# Altium footprint library PcbLib.PcbLib: 44 footprints (part 1 of 3)
Each footprint in its own frame and in the unit in brackets; x right, y up, seen from the top. Pads: shape width x height; smd on the part's side, far side on the other; paste and mask are expansions set on the pad; w line width, h text height; cw(c..) or ccw(c..) is an arc to the next point about the centre after c.
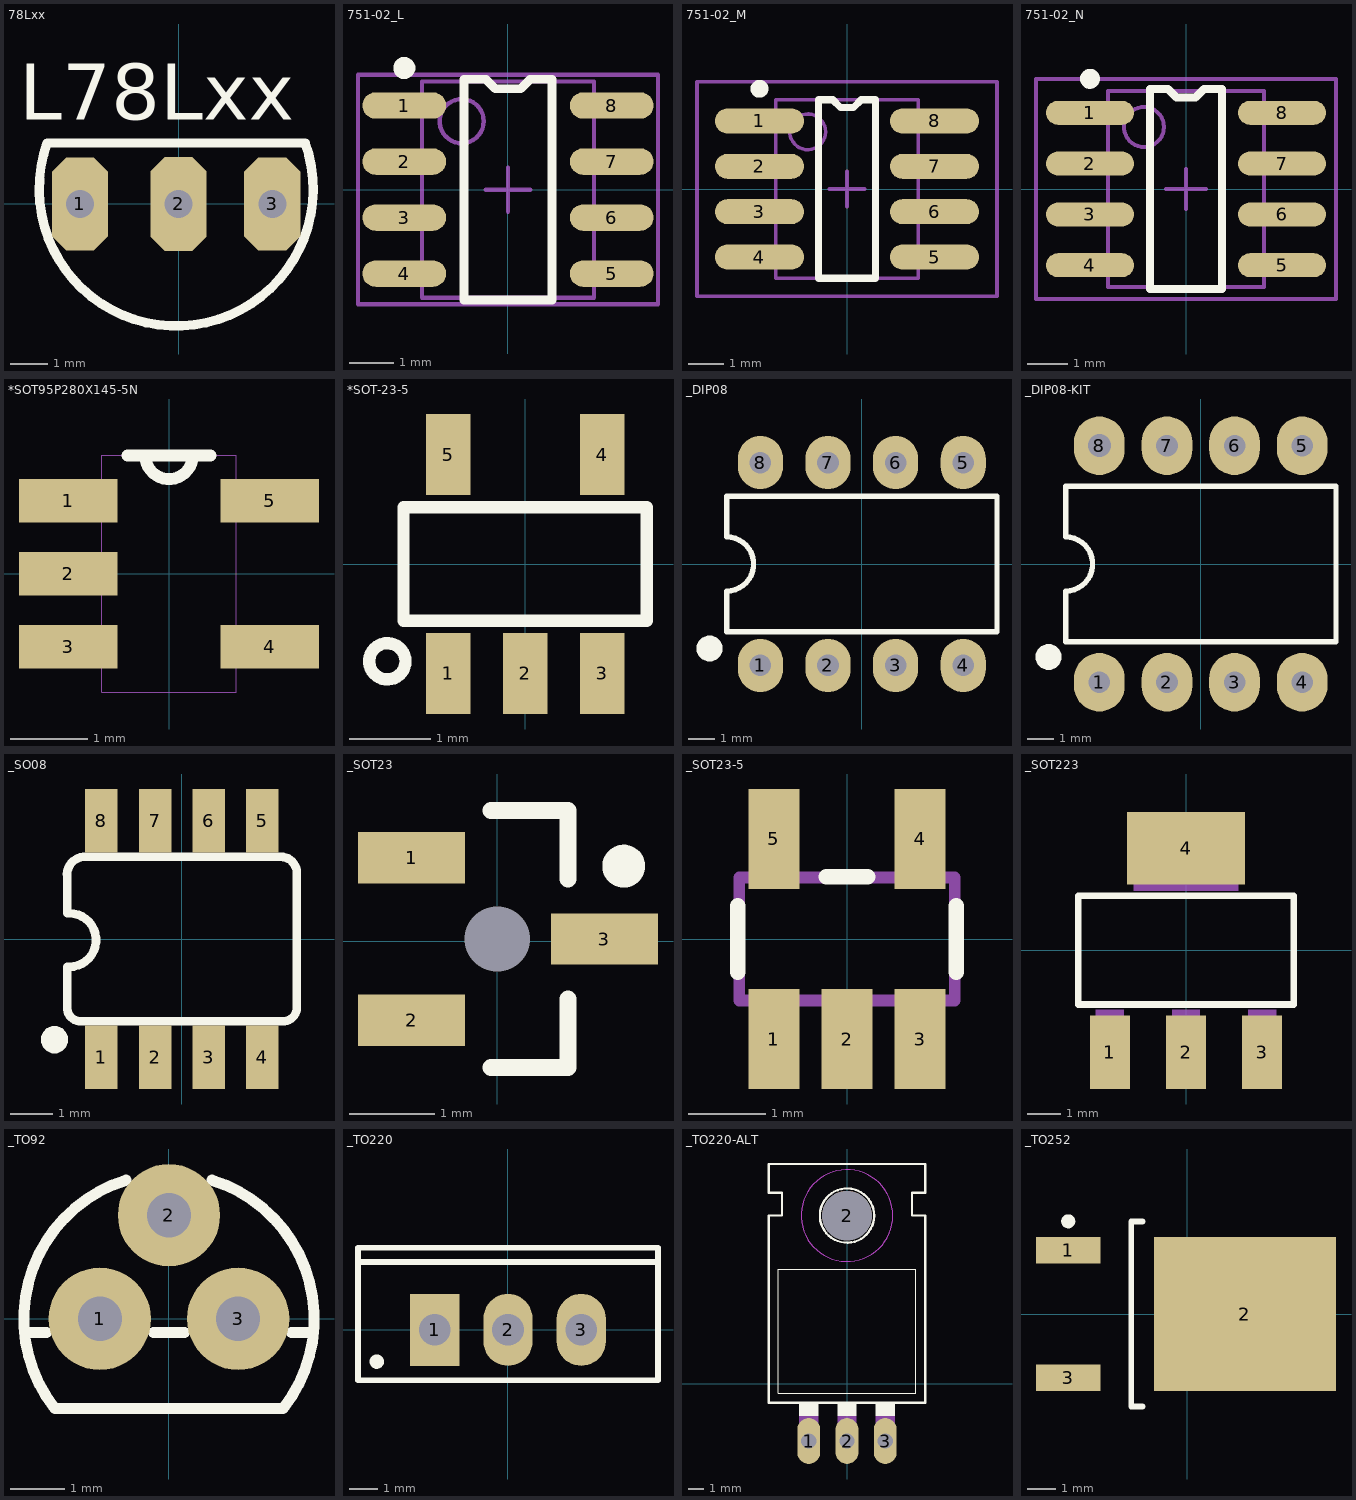
[diagram p0: the footprints below, top view; thin cyan lines are the x and y axes]

## 78Lxx [mil]
pads (3):
  oct 60x99.37 hole 30: 1(-105,0) 3(100,0)
  oct 60x100 hole 30: 2(0,0)
Top Overlay:
  lines w10: -140,65 ccw(c-2.5,15.96) 135,65 -140,65
  text "L78Lxx" at -170,90 h60

## 751-02_L [mm] "8-Pin Small Outline Integrated Circuit 1.27 mm Pitch, IPC High Density-DESIGNER ABBAS BASEREH"
height 1.75
pads (8):
  oval 1.9x0.6 smd: 1(-2.35,1.905) 2(-2.35,0.635) 3(-2.35,-0.635) 4(-2.35,-1.905) 5(2.35,-1.905) 6(2.35,-0.635) 7(2.35,0.635) 8(2.35,1.905)
Top Overlay:
  circle w0.25: c-2.35,2.755 r0.125
  lines w0.2: -1,-2.5 -1,2.5 -0.5,2.5 -0.286,2.286 0.286,2.286 0.5,2.5 1,2.5 1,-2.5 -1,-2.5
Mechanical 13:
  circle w0.1: c-1.05,1.55 r0.5
  lines w0.1: -1.95,-2.45 -1.95,2.45 1.95,2.45 1.95,-2.45 -1.95,-2.45
Mechanical 15:
  lines w0.1: -0.5,0 0.5,0 ; 0,-0.5 0,0.5 ; -3.4,-2.6 -3.4,2.6 3.4,2.6 3.4,-2.6 -3.4,-2.6
3D body "User Library-SO-8N.STEP": height 1.62, standoff 0, extent -3,-2.46 3,2.46

## 751-02_M [mm] "8-Pin Small Outline Integrated Circuit 1.27 mm Pitch, IPC Low Density-DESIGNER ABBAS BASEREH"
height 1.75
pads (8):
  oval 2.5x0.7 smd: 1(-2.45,1.905) 2(-2.45,0.635) 3(-2.45,-0.635) 4(-2.45,-1.905) 5(2.45,-1.905) 6(2.45,-0.635) 7(2.45,0.635) 8(2.45,1.905)
Top Overlay:
  circle w0.25: c-2.45,2.805 r0.125
  lines w0.2: -0.8,-2.5 0.8,-2.5 0.8,2.5 0.4,2.5 0.186,2.286 -0.186,2.286 -0.4,2.5 -0.8,2.5 -0.8,-2.5
Mechanical 13:
  circle w0.1: c-1.1,1.6 r0.5
  lines w0.1: -2,-2.5 2,-2.5 2,2.5 -2,2.5 -2,-2.5
Mechanical 15:
  lines w0.1: -0.5,0 0.5,0 ; 0,-0.5 0,0.5 ; -4.2,-3 4.2,-3 4.2,3 -4.2,3 -4.2,-3
3D body "User Library-SO-8N.STEP": height 1.62, standoff 0, extent -3,-2.46 3,2.46

## 751-02_N [mm] "8-Pin Small Outline Integrated Circuit 1.27 mm Pitch, IPC Medium Density-DESIGNER ABBAS BASEREH"
height 1.75
pads (8):
  oval 2.2x0.6 smd: 1(-2.4,1.905) 2(-2.4,0.635) 3(-2.4,-0.635) 4(-2.4,-1.905) 5(2.4,-1.905) 6(2.4,-0.635) 7(2.4,0.635) 8(2.4,1.905)
Top Overlay:
  circle w0.25: c-2.4,2.755 r0.125
  lines w0.2: -0.9,-2.5 0.9,-2.5 0.9,2.5 0.45,2.5 0.236,2.286 -0.236,2.286 -0.45,2.5 -0.9,2.5 -0.9,-2.5
Mechanical 13:
  circle w0.1: c-1.05,1.55 r0.5
  lines w0.1: -1.95,-2.45 1.95,-2.45 1.95,2.45 -1.95,2.45 -1.95,-2.45
Mechanical 15:
  lines w0.1: -0.5,0 0.5,0 ; 0,-0.5 0,0.5 ; -3.75,-2.75 3.75,-2.75 3.75,2.75 -3.75,2.75 -3.75,-2.75
3D body "User Library-SO-8N.STEP": height 1.62, standoff 0, extent -3,-2.46 3,2.46

## *SOT95P280X145-5N [mil]
pads (5):
  rect 50x22 smd: 1(-51,37) 2(-51,0) 3(-51,-37) 4(51,-37) 5(51,37)
Top Overlay:
  lines w6: -21,60 -12,60 ; 21,60 12,60 ; -12,60 ccw(c0,60) 12,60 ; -12,60 12,60
Mechanical 4:
  lines w0: -59,-47 -59,-28 ; -59,-47 -34,-47 ; -59,-47 -59,-28 ; -59,-47 -34,-47 ; -59,-28 -34,-28 ; -59,-28 -34,-28 ; -59,-10 -59,10 ; -59,-10 -34,-10 ; -59,-10 -59,10 ; -59,-10 -34,-10 ; -59,10 -34,10 ; -59,10 -34,10 ; -59,28 -59,47 ; -59,28 -34,28 ; -59,28 -59,47 ; -59,28 -34,28 ; -59,47 -34,47 ; -59,47 -34,47 ; -34,-60 34,-60 ; -34,-60 -34,-47 ; -34,-60 34,-60 ; -34,-60 -34,-47 ; -34,-47 -34,-28 ; -34,-47 -34,-28 ; -34,-28 -34,-10 ; -34,-28 -34,-10 ; -34,-10 -34,10 ; -34,-10 -34,10 ; -34,10 -34,28 ; -34,10 -34,28 ; -34,28 -34,47 ; -34,28 -34,47 ; -34,47 -34,60 ; -34,47 -34,60 ; -34,60 -12,60 ; -34,60 -12,60 ; -12,60 ccw(c0,60) 12,60 ; -12,60 ccw(c0,60) 12,60 ; -12,60 12,60 ; -12,60 12,60 ; 12,60 34,60 ; 12,60 34,60 ; 34,-60 34,-47 ; 34,-60 34,-47 ; 34,-47 34,-28 ; 34,-47 59,-47 ; 34,-47 34,-28 ; 34,-47 59,-47 ; 34,-28 34,28 ; 34,-28 59,-28 ; 34,-28 34,28 ; 34,-28 59,-28 ; 34,28 34,47 ; 34,28 59,28 ; 34,28 34,47 ; 34,28 59,28 ; 34,47 34,60 ; 34,47 59,47 ; 34,47 34,60 ; 34,47 59,47 ; 59,-47 59,-28 ; 59,-47 59,-28 ; 59,28 59,47 ; 59,28 59,47

## *SOT-23-5 [mm]
pads (5):
  rect 0.55x1 smd: 1(-0.95,-1.35) 2(0,-1.35) 3(0.95,-1.35) 4(0.95,1.35) 5(-0.95,1.35)
Top Overlay:
  circle w0.152: c-1.7,-1.2 r0.224
  lines w0.152: -1.5,-0.7 1.5,-0.7 1.5,0.7 -1.5,0.7 -1.5,-0.7

## _DIP08 [mm]
pads (8):
  oval 1.7x2 hole 0.813: 1(-3.81,-3.81) 2(-1.27,-3.81) 3(1.27,-3.81) 4(3.81,-3.81) 5(3.81,3.81) 6(1.27,3.81) 7(-1.27,3.81) 8(-3.81,3.81)
Top Overlay:
  region: -6.191,-3.175 -6.191,-3.08 -6.119,-2.905 -5.985,-2.771 -5.81,-2.699 -5.715,-2.699 -5.62,-2.699 -5.445,-2.771 -5.311,-2.905 -5.239,-3.08 -5.239,-3.175 -5.239,-3.27 -5.311,-3.445 -5.445,-3.579 -5.62,-3.651 -5.715,-3.651 -5.81,-3.651 -5.985,-3.579 -6.119,-3.445 -6.191,-3.27
  lines w0.203: -5.08,-2.54 -5.08,-1.016 ccw(c-5.08,0) -5.08,1.016 -5.08,2.54 5.08,2.54 5.08,-2.54 -5.08,-2.54

## _DIP08-KIT [mm]
pads (8):
  oval 1.905x2.2 hole 0.813: 1(-3.81,-4.445) 2(-1.27,-4.445) 3(1.27,-4.445) 4(3.81,-4.445) 5(3.81,4.445) 6(1.27,4.445) 7(-1.27,4.445)
  oval 1.905x2.2 hole 0.864: 8(-3.81,4.445)
Top Overlay:
  region: -6.191,-3.492 -6.191,-3.398 -6.119,-3.223 -5.985,-3.089 -5.81,-3.016 -5.715,-3.016 -5.62,-3.016 -5.445,-3.089 -5.311,-3.223 -5.239,-3.398 -5.239,-3.492 -5.239,-3.587 -5.311,-3.762 -5.445,-3.896 -5.62,-3.969 -5.715,-3.969 -5.81,-3.969 -5.985,-3.896 -6.119,-3.762 -6.191,-3.587
  lines w0.203: -5.08,-2.921 -5.08,-1.016 ccw(c-5.08,0) -5.08,1.016 -5.08,2.921 5.08,2.921 5.08,-2.921 -5.08,-2.921
Top Solder:
  circle w0: c-3.81,4.445 r0.432
  circle w0: c-1.27,4.445 r0.432
  circle w0: c1.27,4.445 r0.432
  circle w0: c3.81,4.445 r0.432
  circle w0: c-3.81,-4.445 r0.432
  circle w0: c-1.27,-4.445 r0.432
  circle w0: c1.27,-4.445 r0.432
  circle w0: c3.81,-4.445 r0.432
Bottom Solder:
  circle w0: c-3.81,4.445 r1.067
  circle w0: c-1.27,4.445 r1.067
  circle w0: c1.27,4.445 r1.067
  circle w0: c3.81,4.445 r1.067
  circle w0: c-3.81,-4.445 r1.067
  circle w0: c-1.27,-4.445 r1.067
  circle w0: c1.27,-4.445 r1.067
  circle w0: c3.81,-4.445 r1.067

## _SO08 [mm]
pads (8):
  rect 0.77x1.5 smd: 1(-1.905,-2.8) 2(-0.635,-2.8) 3(0.635,-2.8) 4(1.905,-2.8) 5(1.905,2.8) 6(0.635,2.8) 7(-0.635,2.8) 8(-1.905,2.8)
Top Overlay:
  region: -2.699,-2.381 -2.699,-2.318 -2.747,-2.201 -2.836,-2.112 -2.953,-2.064 -3.016,-2.064 -3.079,-2.064 -3.196,-2.112 -3.285,-2.201 -3.334,-2.318 -3.334,-2.381 -3.334,-2.444 -3.285,-2.561 -3.196,-2.65 -3.079,-2.699 -3.016,-2.699 -2.953,-2.699 -2.836,-2.65 -2.747,-2.561 -2.699,-2.444
  lines w0.203: -2.718,-0.66 -2.718,-1.665 ccw(c-2.387,-1.616) -2.337,-1.946 2.437,-1.946 ccw(c2.387,-1.615) 2.718,-1.565 2.718,1.565 ccw(c2.337,1.566) 2.337,1.946 -2.337,1.946 ccw(c-2.287,1.515) -2.718,1.465 ; -2.718,0.61 -2.718,1.453 ; -2.667,-0.66 ccw(c-2.667,-0.025) -2.667,0.61
Mechanical 16:
  rectangle: -2.159,2.286 -1.651,3.302
  rectangle: 1.651,2.286 2.159,3.302
  rectangle: 0.381,2.286 0.889,3.302
  rectangle: -0.889,2.286 -0.381,3.302
  rectangle: 1.651,-3.302 2.159,-2.273
  rectangle: 0.381,-3.302 0.889,-2.273
  rectangle: -0.889,-3.302 -0.381,-2.273
  rectangle: -2.159,-3.302 -1.651,-2.273

## _SOT23 [mm] "SOT23, 3-Leads, Body 2.9x1.3mm, Pitch 0.95mm, Lead Span 2.3mm - Reverse Pinning, IPC Medium Density"
height 1.1
pads (4):
  round 0 hole 0.762: 0(0,0.025)
  rect 1.25x0.6 smd: 1(-0.998,0.975) 2(-0.998,-0.925) 3(1.252,0.025)
Top Overlay:
  circle w0.25: c1.477,0.875 r0.125
  lines w0.2: -0.073,-1.475 0.827,-1.475 0.827,-0.675 ; -0.073,1.525 0.827,1.525 0.827,0.725

## _SOT23-5 [mm]
pads (5):
  rect 0.66x1.3 smd: 1(-0.95,-1.3) 2(0,-1.3) 3(0.95,-1.3) 4(0.95,1.3) 5(-0.95,1.3)
Top Overlay:
  lines w0.203: -1.422,-0.43 -1.422,0.43 ; -0.268,0.811 0.268,0.811 ; 1.422,-0.43 1.422,0.43
Mechanical 16:
  rectangle: -1.2,-1.5 -0.7,-0.85
  rectangle: -0.25,-1.5 0.25,-0.85
  rectangle: 0.7,-1.5 1.2,-0.85
  rectangle: 0.7,0.85 1.2,1.5
  rectangle: -1.2,0.85 -0.7,1.5
  lines w0.152: -1.4,-0.8 1.4,-0.8 1.4,0.8 -1.4,0.8 -1.4,-0.8

## _SOT223 [mil]
pads (4):
  rect 48x88 smd: 1(-91,-122) 2(0,-122) 3(91,-122)
  rect 141.73x86.61 smd: 4(0,122.01)
Top Overlay:
  lines w8: -129,-65 129,-65 129,65 -129,65 -129,-65
Mechanical 16:
  rectangle: -63,71 63,144
  rectangle: -17,-144 17,-71
  rectangle: -108,-144 -74,-71
  rectangle: 74,-144 108,-71
  rectangle: -63,71 63,144
  rectangle: -17,-144 17,-71
  rectangle: -108,-144 -74,-71
  rectangle: 74,-144 108,-71

## _TO92 [mil]
pads (3):
  round 74 hole 32: 1(-50,0) 2(0,75) 3(50,0)
Top Overlay:
  lines w8: -104.52,-10 -88.73,-10 ; -30.96,100.33 ccw(c0,0) -82.46,-65 82.46,-65 ccw(c0,0) 30.96,100.33 ; -11.27,-10 11.27,-10 ; 88.73,-10 104.52,-10

## _TO220 [mm] "TO, Thru-Hole, Vertical, Heatsink Mounted; 3 In-Line Leads; Pitch 2.54 mm"
height 19.7
pads (3):
  rect 1.7x2.5 hole 1.1: 1(-2.54,0)
  oval 1.7x2.5 hole 1.1: 2(0,0) 3(2.54,0)
Top Overlay:
  circle w0.25: c-4.55,-1.1 r0.125
  lines w0.2: -5.2,2.35 5.2,2.35 ; -5.2,-1.75 -5.2,2.85 5.2,2.85 5.2,-1.75 -5.2,-1.75
Mechanical 13:
  lines w0.1: -5.2,2.3 5.2,2.3 ; -5.2,-1.75 5.2,-1.75 5.2,2.85 -5.2,2.85 -5.2,-1.75
Mechanical 15:
  lines w0.1: -0.5,0 0.5,0 ; 0,-0.5 0,0.5

## _TO220-ALT [mil]
pads (4):
  oval 60x120 hole 40: 1(-100,-150) 2(0,-150) 3(100,-150)
  round 130 hole 130: 2(0,440)
Top Overlay:
  circle w6: c0,440 r71
  rectangle: -125,-85 -75,-50
  rectangle: -25,-85 25,-50
  rectangle: 75,-85 125,-50
  lines w2: -180,-25 -180,300 180,300 180,-25 -180,-25
  lines w6: -205,-50 -205,440 -170,440 -170,500 -205,500 -205,575 205,575 205,500 170,500 170,440 205,440 205,-50 -205,-50
Mechanical 9 keep-out:
  circle w0: c0,440 r120
Mechanical 10:
  circle w0: c0,440 r120
Mechanical 16:
  rectangle: -125,-150 -75,-85
  rectangle: -25,-150 25,-85
  rectangle: 75,-150 125,-85

## _TO252 [mm] "D-PAK, 4-Leads, Body 6.1x6.5mm, Pitch 2.28mm, Lead Span 9.7mm, IPC Medium Density"
height 2.4
pads (3):
  rect 2.3x0.95 smd: 1(-4.25,2.28) 3(-4.25,-2.28)
  rect 6.5x5.5 smd: 2(2.05,0)
Top Overlay:
  circle w0.25: c-4.25,3.305 r0.125
  lines w0.2: -1.6,-3.3 -2,-3.3 -2,3.3 -1.6,3.3
Mechanical 13:
  lines w0.1: -2,-3.3 -2,3.3